# Altium schematic symbol library TMPS 03.SchLib: 1 symbol
Pins are listed as number, name and electrical type; pins without a type are passive.

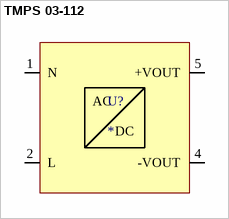
[diagram p0: symbol TMPS 03-112]

## TMPS 03-112
designator U?
Traco 3W AC/DC converter; 12V output
footprint TMPS 03
pins: 1 N, 2 L, 4 -VOUT, 5 +VOUT
text: AC; DC